# EAGLE library part MODULE (library template)
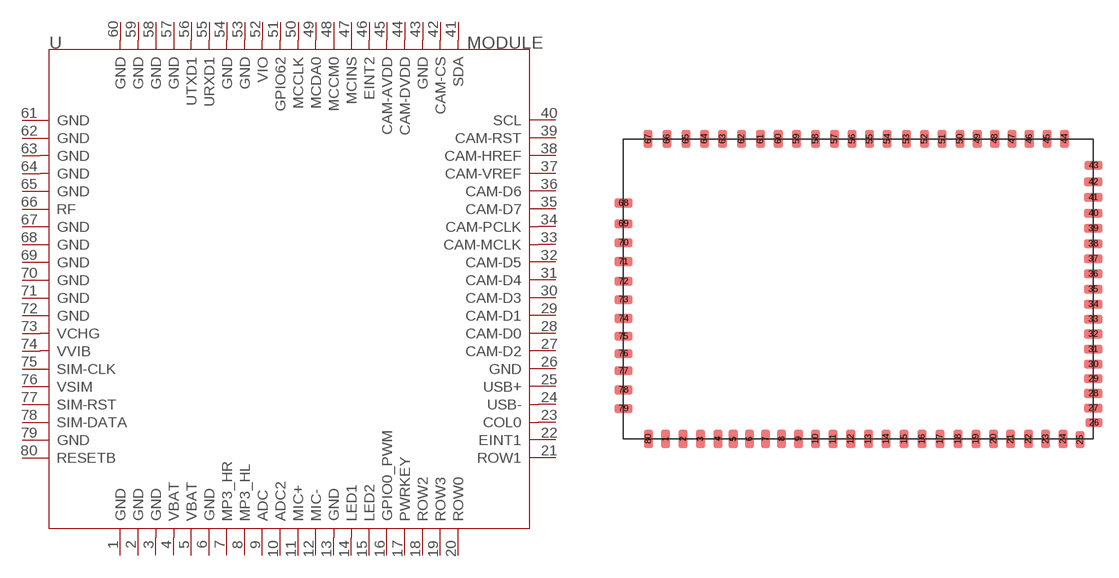
[diagram p15: symbol with the pads of 80P-24.9X38.7; footprint 80P-24.9X38.7]

Designator prefix U

## MODULE  [80P-24.9X38.7]
1  GND
2  GND
3  GND
4  VBAT
5  VBAT
6  GND
7  MP3_HR
8  MP3_HL
9  ADC
10  ADC2
11  MIC+
12  MIC-
13  GND
14  LED1
15  LED2
16  GPIO0_PWM
17  PWRKEY
18  ROW2
19  ROW3
20  ROW0
21  ROW1
22  EINT1
23  COL0
24  USB-
25  USB+
26  GND
27  CAM-D2
28  CAM-D0
29  CAM-D1
30  CAM-D3
31  CAM-D4
32  CAM-D5
33  CAM-MCLK
34  CAM-PCLK
35  CAM-D7
36  CAM-D6
37  CAM-VREF
38  CAM-HREF
39  CAM-RST
40  SCL
41  SDA
42  CAM-CS
43  GND
44  CAM-DVDD
45  CAM-AVDD
46  EINT2
47  MCINS
48  MCCM0
49  MCDA0
50  MCCLK
51  GPIO62
52  VIO
53  GND
54  GND
55  URXD1
56  UTXD1
57  GND
58  GND
59  GND
60  GND
61  GND
62  GND
63  GND
64  GND
65  GND
66  RF
67  GND
68  GND
69  GND
70  GND
71  GND
72  GND
73  VCHG
74  VVIB
75  SIM-CLK
76  VSIM
77  SIM-RST
78  SIM-DATA
79  GND
80  RESETB

## Footprint 80P-24.9X38.7 (pad centres in mm)
smd 0.762 x 1.524: 1 3.5,0; 2 4.96,0; 3 6.4,0; 4 7.85,0; 5 9.13,0; 6 10.47,0; 7 11.82,0; 8 13.16,0; 9 14.55,0; 10 15.97,0; 11 17.42,0; 12 18.9,0; 13 20.36,0; 14 21.84,0; 15 23.34,0; 16 24.82,0; 17 26.31,0; 18 27.82,0; 19 29.3,0; 20 30.77,0; 21 32.19,0; 22 33.67,0; 23 35.11,0; 24 36.55,0; 44 36.68,24.968; 45 35.21,24.968; 46 33.74,24.968; 47 32.3,24.968; 48 30.87,24.968; 49 29.42,24.968; 50 27.98,24.968; 51 26.5,24.968; 52 25.03,24.968; 53 23.52,24.968; 54 21.93,24.968; 55 20.47,24.968; 56 19.02,24.968; 57 17.54,24.968; 58 15.97,24.968; 59 14.38,24.968; 60 12.87,24.968; 61 11.39,24.968; 62 9.81,24.968; 63 8.24,24.968; 64 6.73,24.968; 65 5.19,24.968; 66 3.61,24.968; 67 2.06,24.968; 80 2.07,0
smd 0.762 x 1.397: 25 37.97,-0.064
smd 1.397 x 0.762: 26 39.129,1.34
smd 1.524 x 0.762: 27 39.065,2.56; 28 39.065,3.78; 29 39.065,5; 30 39.065,6.21; 31 39.065,7.46; 32 39.065,8.73; 33 39.065,9.97; 34 39.065,11.21; 35 39.065,12.46; 36 39.065,13.73; 37 39.065,14.99; 38 39.065,16.24; 39 39.065,17.52; 40 39.065,18.78; 41 39.065,20.1; 42 39.065,21.39; 43 39.091,22.76; 68 0,19.62; 69 0,17.91; 70 0,16.33; 71 0,14.757; 72 0,13.11; 73 0,11.59; 74 0,10.02; 75 0,8.53; 76 0,7.1; 77 0,5.66; 78 0,4.07; 79 0,2.52